# Altium schematic symbol library 4n35.SchLib: 1 symbol
Pins are listed as number, name and electrical type; pins without a type are passive.

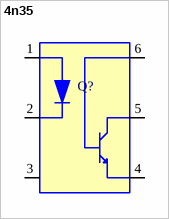
[diagram p0: symbol 4n35]

## 4n35
designator Q?
MF: Vishay; MP: 4N35; Purchase-URL: https://pricing.snapeda.com/search/part/4N35/?ref=eda; Price: None; SnapEDA_Link: https://www.snapeda.com/parts/4N35/Vishay%20Semiconductor%20Opto%20Division/view-part/579099/?ref=snap; Availability: Good; Value: *; Check_prices: https://www.snapeda.com/parts/4N35/Vishay%20Semiconductor%20Opto%20Division/view-part/579099/?ref=eda; Package: DIP-6 Texas Instruments
footprint DIP6-2.54-7.3X6.5MM
pins: 1 ANODE, 2 CATHODE, 3 NC, 4 EMITER, 5 COLLECTOR, 6 BASE